# EAGLE library part AD7819YRZ (library Oscilloscope Component Library)
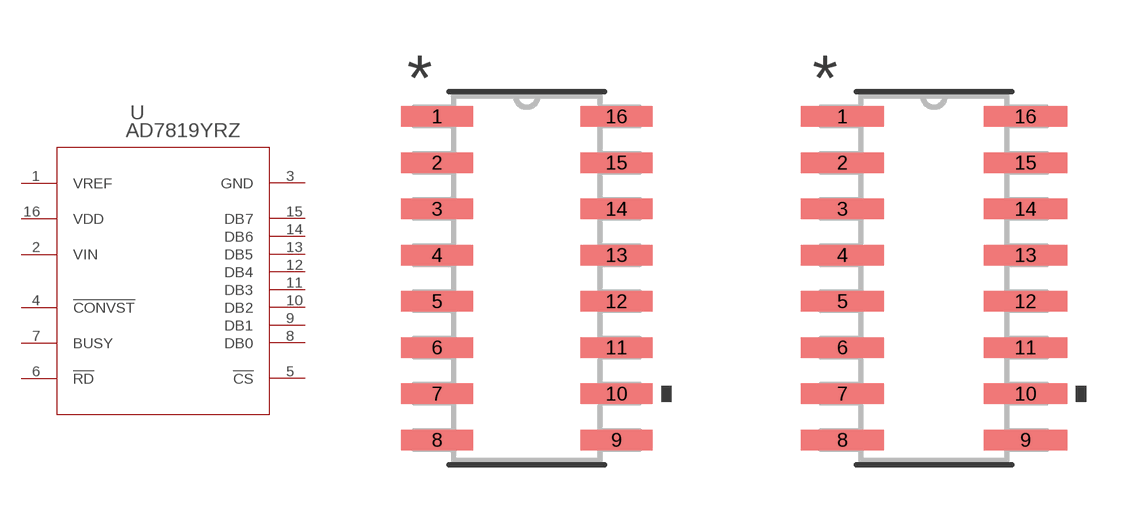
[diagram p0: symbol with the pads of R_16_ADI; footprints R_16_ADI, AD7819-M]

Designator prefix U

## AD7819YRZR_16_ADI (COPYRIGHT: Copyright (C) 2023 Ultra Librarian. All rights reserved.; MANUFACTURER_PART_NUMBER: AD7819YRZ; MFR_NAME: Analog Devices Inc)  [R_16_ADI]
1  VREF  pas
2  VIN  pas
3  GND  pas
4  !CONVST  pas
5  !CS  pas
6  !RD  pas
7  BUSY  pas
8  DB0  pas
9  DB1  pas
10  DB2  pas
11  DB3  pas
12  DB4  pas
13  DB5  pas
14  DB6  pas
15  DB7  pas
16  VDD  pas

## AD7819YRZR_16_ADI-M (COPYRIGHT: Copyright (C) 2023 Ultra Librarian. All rights reserved.; MANUFACTURER_PART_NUMBER: AD7819YRZ; MFR_NAME: Analog Devices Inc)  [AD7819-M]
Pads as for R_16_ADI

## AD7819YRZR_16_ADI-L (COPYRIGHT: Copyright (C) 2023 Ultra Librarian. All rights reserved.; MANUFACTURER_PART_NUMBER: AD7819YRZ; MFR_NAME: Analog Devices Inc)  [AD7819-L]
Pads as for R_16_ADI

## Footprint R_16_ADI (pad centres in mm)
smd 1.981 x 0.559: 1 -2.464,4.445; 2 -2.464,3.175; 3 -2.464,1.905; 4 -2.464,0.635; 5 -2.464,-0.635; 6 -2.464,-1.905; 7 -2.464,-3.175; 8 -2.464,-4.445; 9 2.464,-4.445; 10 2.464,-3.175; 11 2.464,-1.905; 12 2.464,-0.635; 13 2.464,0.635; 14 2.464,1.905; 15 2.464,3.175; 16 2.464,4.445

## Footprint AD7819-M (pad centres in mm)
smd 2.286 x 0.559: 1 -2.515,4.445; 2 -2.515,3.175; 3 -2.515,1.905; 4 -2.515,0.635; 5 -2.515,-0.635; 6 -2.515,-1.905; 7 -2.515,-3.175; 8 -2.515,-4.445; 9 2.515,-4.445; 10 2.515,-3.175; 11 2.515,-1.905; 12 2.515,-0.635; 13 2.515,0.635; 14 2.515,1.905; 15 2.515,3.175; 16 2.515,4.445

## Footprint AD7819-L (pad centres in mm)
smd 1.676 x 0.508: 1 -2.413,4.445; 2 -2.413,3.175; 3 -2.413,1.905; 4 -2.413,0.635; 5 -2.413,-0.635; 6 -2.413,-1.905; 7 -2.413,-3.175; 8 -2.413,-4.445; 9 2.413,-4.445; 10 2.413,-3.175; 11 2.413,-1.905; 12 2.413,-0.635; 13 2.413,0.635; 14 2.413,1.905; 15 2.413,3.175; 16 2.413,4.445